# EAGLE library part TC4426ACOA (library TC4426)
IC, 1.5A Dual MOSFET Driver, Inverting, SOIC-8
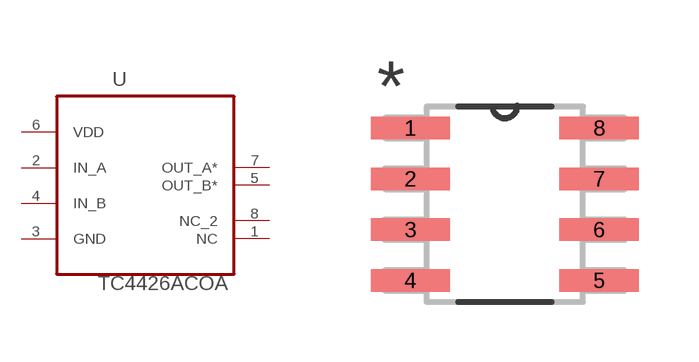
[diagram p0: symbol with the pads of SOIC127P600X175-8N; footprint SOIC127P600X175-8N]

Designator prefix U

## TC4426ACOA (MPN: TC4426ACOA; OC_FARNELL: 1332309; OC_NEWARK: 96K4017; PACKAGE: 8-SOIC; SUPPLIER: Microchip)  [SOIC127P600X175-8N]
1  NC  nc
2  IN_A  in
3  GND  pwr
4  IN_B  in
5  OUT_B*  out
6  VDD  pwr
7  OUT_A*  out
8  NC_2  nc

## Footprint SOIC127P600X175-8N (pad centres in mm)
smd 1.981 x 0.559: 1 -2.362,1.905; 2 -2.362,0.635; 3 -2.362,-0.635; 4 -2.362,-1.905; 5 2.362,-1.905; 6 2.362,-0.635; 7 2.362,0.635; 8 2.362,1.905